# Altium footprint library PcbLib_C0805.PcbLib: 2 footprints
Each footprint in its own frame and in the unit in brackets; x right, y up, seen from the top. Pads: shape width x height; smd on the part's side, far side on the other; paste and mask are expansions set on the pad; w line width, h text height; cw(c..) or ccw(c..) is an arc to the next point about the centre after c.
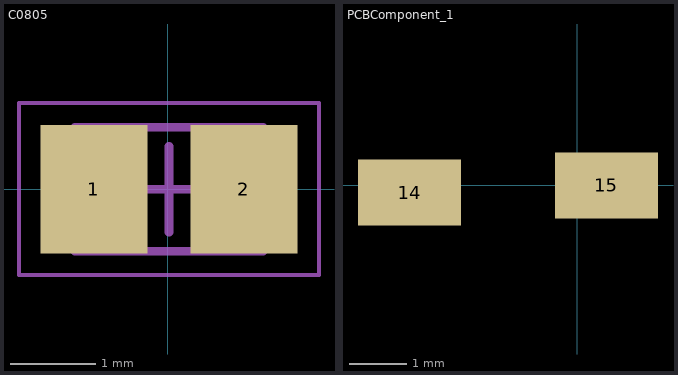
[diagram p0: the footprints below, top view; thin cyan lines are the x and y axes]

## C0805 [mm] "C0805_0.22pF"
pads (2):
  rect 1.25x1.5 smd: 1(-0.861,0) 2(0.889,0)
Mechanical 13:
  lines w0.1: -1.086,-0.725 1.114,-0.725 1.114,0.725 -1.086,0.725 -1.086,-0.725
Mechanical 15:
  lines w0.05: -1.736,1 -1.736,-1 ; -1.736,1.007 1.764,1.007 ; 1.764,1 1.764,-1 ; -1.736,-1 1.764,-1 ; -1.736,-1 1.764,-1
  lines w0.1: -0.486,0 0.514,0 ; 0.014,-0.5 0.014,0.5
3D body: height 0.55, standoff 0, extent 0.484,-0.725 1.114,0.725
3D body: height 0.55, standoff 0, extent -1.086,-0.725 -0.456,0.725
3D body: height 0.55, standoff 0, extent -0.456,-0.725 0.484,0.725

## PCBComponent_1 [mil]
pads (2):
  rect 70.66x45.28 smd: 14(-115,-5) 15(20,0)